# Altium schematic symbol library IS903_1.SCHLIB: 19 symbols
Pins are listed as number, name and electrical type; pins without a type are passive.

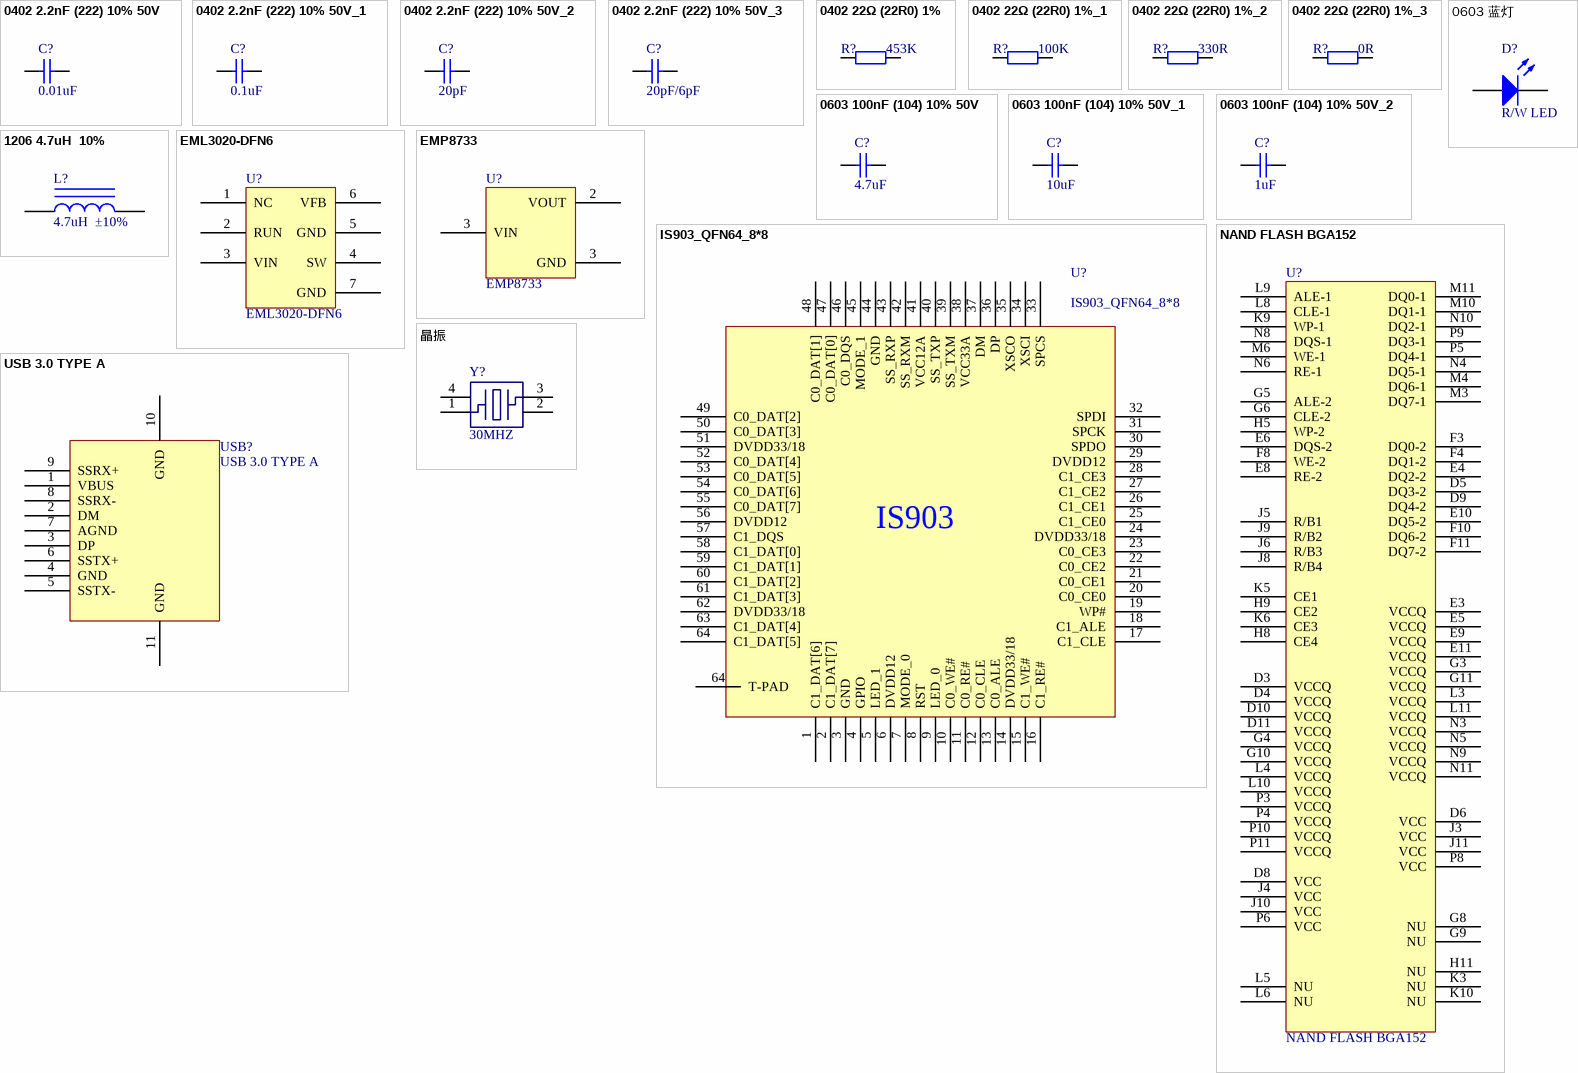
[diagram p0: symbols 0402 2.2nF (222) 10% 50V to 晶振]

## 0402 2.2nF (222) 10% 50V
designator C?, comment 0.01uF
贴片电容; ComponentLink1Description: 供应商链接; ComponentLink1URL: http://www.szlcsc.com/product/details_1883.html; Package: 0402; Supplier: LC; SuppliersPartNumber: C1531
footprint C 0402_L (无极性贴片电容)
pins: 1, 2

## 0402 2.2nF (222) 10% 50V_1
designator C?, comment 0.1uF
贴片电容; ComponentLink1Description: 供应商链接; ComponentLink1URL: http://www.szlcsc.com/product/details_1883.html; Package: 0402; Supplier: LC; SuppliersPartNumber: C1531
footprint C 0402_L (无极性贴片电容)
pins: 1, 2

## 0402 2.2nF (222) 10% 50V_2
designator C?, comment 20pF
贴片电容; ComponentLink1Description: 供应商链接; ComponentLink1URL: http://www.szlcsc.com/product/details_1883.html; Package: 0402; Supplier: LC; SuppliersPartNumber: C1531
footprint C 0402_L (无极性贴片电容)
pins: 1, 2

## 0402 2.2nF (222) 10% 50V_3
designator C?, comment 20pF/6pF
贴片电容; ComponentLink1Description: 供应商链接; ComponentLink1URL: http://www.szlcsc.com/product/details_1883.html; Package: 0402; Supplier: LC; SuppliersPartNumber: C1531
footprint C 0402_L (无极性贴片电容)
pins: 1, 2

## 0402 22Ω (22R0) 1%
designator R?, comment 453K
贴片电阻; ComponentLink1Description: 供应商链接; ComponentLink1URL: http://www.szlcsc.com/product/details_25835.html; Package: 0402; Supplier: LC; SuppliersPartNumber: C25092
footprint R 0402_L (1/16W贴片电阻)
pins: 1, 2

## 0402 22Ω (22R0) 1%_1
designator R?, comment 100K
贴片电阻; ComponentLink1Description: 供应商链接; ComponentLink1URL: http://www.szlcsc.com/product/details_25835.html; Package: 0402; Supplier: LC; SuppliersPartNumber: C25092
footprint R 0402_L (1/16W贴片电阻)
pins: 1, 2

## 0402 22Ω (22R0) 1%_2
designator R?, comment 330R
贴片电阻; ComponentLink1Description: 供应商链接; ComponentLink1URL: http://www.szlcsc.com/product/details_25835.html; Package: 0402; Supplier: LC; SuppliersPartNumber: C25092
footprint R 0402_L (1/16W贴片电阻)
pins: 1, 2

## 0402 22Ω (22R0) 1%_3
designator R?, comment 0R
贴片电阻; ComponentLink1Description: 供应商链接; ComponentLink1URL: http://www.szlcsc.com/product/details_25835.html; Package: 0402; Supplier: LC; SuppliersPartNumber: C25092
footprint R 0402_L (1/16W贴片电阻)
pins: 1, 2

## 0603 100nF (104) 10% 50V
designator C?, comment 4.7uF
贴片电容; ComponentLink1Description: 供应商链接; ComponentLink1URL: http://www.szlcsc.com/product/details_15331.html; Package: 0603; Supplier: LC; SuppliersPartNumber: C14663
footprint C 0603_L (无极性贴片电容)
pins: 1, 2

## 0603 100nF (104) 10% 50V_1
designator C?, comment 10uF
贴片电容; ComponentLink1Description: 供应商链接; ComponentLink1URL: http://www.szlcsc.com/product/details_15331.html; Package: 0603; Supplier: LC; SuppliersPartNumber: C14663
footprint C 0603_L (无极性贴片电容)
pins: 1, 2

## 0603 100nF (104) 10% 50V_2
designator C?, comment 1uF
贴片电容; ComponentLink1Description: 供应商链接; ComponentLink1URL: http://www.szlcsc.com/product/details_15331.html; Package: 0603; Supplier: LC; SuppliersPartNumber: C14663
footprint C 0603_L (无极性贴片电容)
pins: 1, 2

## 0603 蓝灯
designator D?, comment R/W LED
发光二极管; ComponentLink1Description: 供应商链接; ComponentLink1URL: http://www.szlcsc.com/product/details_73150.html; Package: 0603; Supplier: LC; SuppliersPartNumber: C72041
footprint 0603_LED_S1
pins: A, K

## 1206 4.7uH  10%
designator L?, comment 4.7uH  ±10%
贴片电感; ComponentLink1Description: 供应商链接; ComponentLink1URL: http://www.szlcsc.com/product/details_1401.html; Package: 1206; Supplier: LC; SuppliersPartNumber: C1049
footprint NR2520 (2.5mm*2.0mm*1.0mm(长*宽*高）)
pins: 1, 2

## EML3020-DFN6
designator U?
footprint SON50P200X200X80-7N-D
pins: 1 NC, 2 RUN, 3 VIN, 4 SW, 5 GND, 6 VFB, 7 GND

## EMP8733
designator U?
footprint SOT23-3L (3x1.3x1mm(长宽高))
pins: 2 VOUT, 3 VIN, 3 GND

## IS903_QFN64_8*8
designator U?
footprint QFN64 9x9_L (64脚，长x宽x高：9x9x1mm，脚距：0.5mm)
pins: 1 C1_DAT[6], 2 C1_DAT[7], 3 GND, 4 GPIO, 5 LED_1, 6 DVDD12, 7 MODE_0, 8 RST, 9 LED_0, 10 C0_WE#, 11 C0_RE#, 12 C0_CLE, 13 C0_ALE, 14 DVDD33/18, 15 C1_WE#, 16 C1_RE#, 17 C1_CLE, 18 C1_ALE, 19 WP#, 20 C0_CE0, 21 C0_CE1, 22 C0_CE2, 23 C0_CE3, 24 DVDD33/18, 25 C1_CE0, 26 C1_CE1, 27 C1_CE2, 28 C1_CE3, 29 DVDD12, 30 SPDO, 31 SPCK, 32 SPDI, 33 SPCS, 34 XSCI, 35 XSCO, 36 DP, 37 DM, 38 VCC33A, 39 SS_TXM, 40 SS_TXP, 41 VCC12A, 42 SS_RXM, 43 SS_RXP, 44 GND, 45 MODE_1, 46 C0_DQS, 47 C0_DAT[0], 48 C0_DAT[1], 49 C0_DAT[2], 50 C0_DAT[3], 51 DVDD33/18, 52 C0_DAT[4], 53 C0_DAT[5], 54 C0_DAT[6], 55 C0_DAT[7], 56 DVDD12, 57 C1_DQS, 58 C1_DAT[0], 59 C1_DAT[1], 60 C1_DAT[2], 61 C1_DAT[3], 62 DVDD33/18, 63 C1_DAT[4], 64 C1_DAT[5], 64 T-PAD
text: IS903

## NAND FLASH BGA152
designator U?
footprint BGA152 (NAND FLASH)
pins: D3 VCCQ, D4 VCCQ, D5 DQ3-2, D6 VCC, D8 VCC, D9 DQ4-2, D10 VCCQ, D11 VCCQ, E3 VCCQ, E4 DQ2-2, E5 VCCQ, E6 DQS-2, E8 RE-2, E9 VCCQ, E10 DQ5-2, E11 VCCQ, F3 DQ0-2, F4 DQ1-2, F8 WE-2, F10 DQ6-2, F11 DQ7-2, G3 VCCQ, G4 VCCQ, G5 ALE-2, G6 CLE-2, G8 NU, G9 NU, G10 VCCQ, G11 VCCQ, H5 WP-2, H8 CE4, H9 CE2, H11 NU, J3 VCC, J4 VCC, J5 R/B1, J6 R/B3, J8 R/B4, J9 R/B2, J10 VCC, J11 VCC, K3 NU, K5 CE1, K6 CE3, K9 WP-1, K10 NU, L3 VCCQ, L4 VCCQ, L5 NU, L6 NU, L8 CLE-1, L9 ALE-1, L10 VCCQ, L11 VCCQ, M3 DQ7-1, M4 DQ6-1, M6 WE-1, M10 DQ1-1, M11 DQ0-1, N3 VCCQ, N4 DQ5-1, N5 VCCQ, N6 RE-1, N8 DQS-1, N9 VCCQ, N10 DQ2-1, N11 VCCQ, P3 VCCQ, P4 VCCQ, P5 DQ4-1, P6 VCC, P8 VCC, P9 DQ3-1, P10 VCCQ, P11 VCCQ

## USB 3.0 TYPE A
designator USB?
footprint USB3.0-G
pins: 1 VBUS, 2 DM, 3 DP, 4 GND, 5 SSTX-, 6 SSTX+, 7 AGND, 8 SSRX-, 9 SSRX+, 10 GND, 11 GND

## 晶振
designator Y?, comment 30MHZ
footprint OSC 2025-4P (2*2.5*0.55mm(长宽高))
pins: 1, 2, 3, 4